# Altium schematic symbol library Conn_Harwin_S1751-46R_eec.SchLib: 1 symbol
Pins are listed as number, name and electrical type; pins without a type are passive.

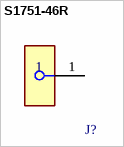
[diagram p0: symbol S1751-46R]

## S1751-46R
designator J?  (value not drawn)
footprint Harwin_0_MFG
pins: 1